# Altium integrated library 7M-12.000MEEQ-T.IntLib: 1 symbol
Pins are listed as number, name and electrical type; pins without a type are passive.

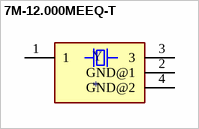
[diagram p0: symbol 7M-12.000MEEQ-T]

## 7M-12.000MEEQ-T
designator Y
12MHz Â±10ppm Crystal 10pF 100 Ohms 4-SMD, No Lead; MP: 7M-12.000MEEQ-T; MF: TXC; Availability: Warning; Value: *; Package: SMD-4 TXC; Price: None; SnapEDA_Link: https://www.snapeda.com/parts/7M-12.000MEEQ-T/TXC%20CORPORATION/view-part/447084/?ref=snap; Mouser-Purchase-URL: https://snapeda.com/shop?store=Mouser&id=447084
footprint OSCCC250X320X80-4N
pins: 1, 2 GND@1 (power), 3, 4 GND@2 (power)